# EAGLE library part DRV8825_MODULE (library PA(EN)_Components_Library)
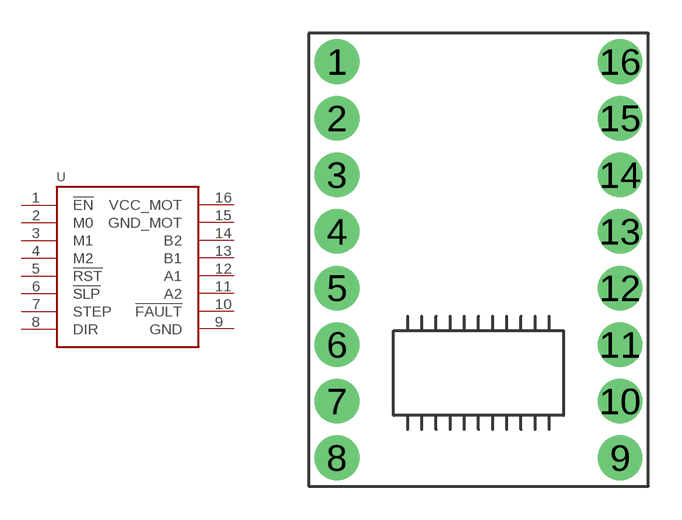
[diagram p28: symbol with the pads of DRV8825_MODULE; footprint DRV8825_MODULE]

Designator prefix U

## DRV8825_MODULE  [DRV8825_MODULE]
1  !EN
2  M0
3  M1
4  M2
5  !RST
6  !SLP
7  STEP
8  DIR
9  GND
10  !FAULT
11  A2
12  A1
13  B1
14  B2
15  GND_MOT
16  VCC_MOT

## Footprint DRV8825_MODULE (pad centres in mm)
drill 1 pad 2: 1 0,0; 2 0,-2.54; 3 0,-5.08; 4 0,-7.62; 5 0,-10.16; 6 0,-12.7; 7 0,-15.24; 8 0,-17.78; 9 12.7,-17.78; 10 12.7,-15.24; 11 12.7,-12.7; 12 12.7,-10.16; 13 12.7,-7.62; 14 12.7,-5.08; 15 12.7,-2.54; 16 12.7,0